# Altium footprint library S8050.PcbLib: 1 footprints
Each footprint in its own frame and in the unit in brackets; x right, y up, seen from the top. Pads: shape width x height; smd on the part's side, far side on the other; paste and mask are expansions set on the pad; w line width, h text height; cw(c..) or ccw(c..) is an arc to the next point about the centre after c.
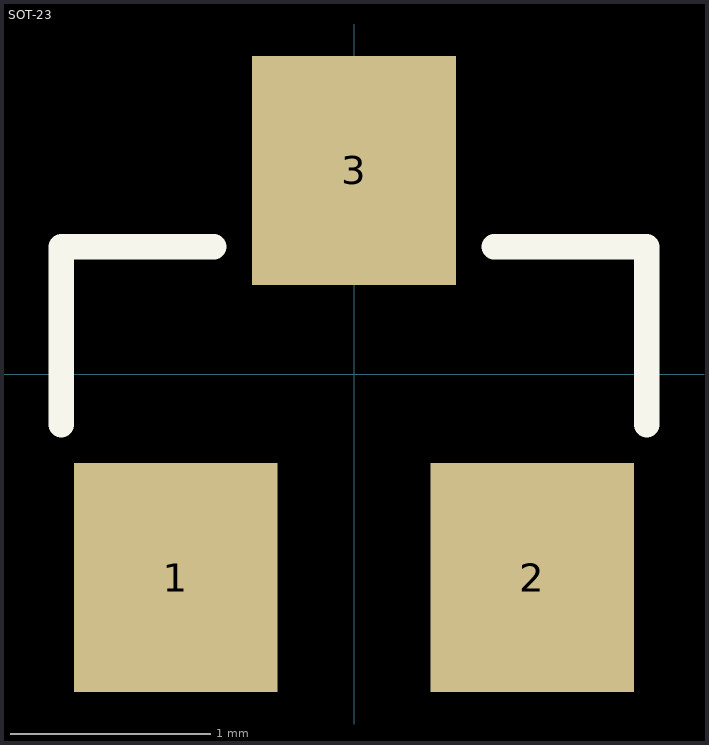
[diagram p0: the footprint, top view; thin cyan lines are the x and y axes]

## SOT-23 [mil]
pads (3):
  rect 40x45 smd: 1(-35,-40) 2(35,-40) 3(0,40)
Top Overlay:
  lines w5: -57.5,-10 -57.5,25 -27.5,25 ; 27.5,25 57.5,25 57.5,-10